# EAGLE library part MAX6676ISA (library untitled)
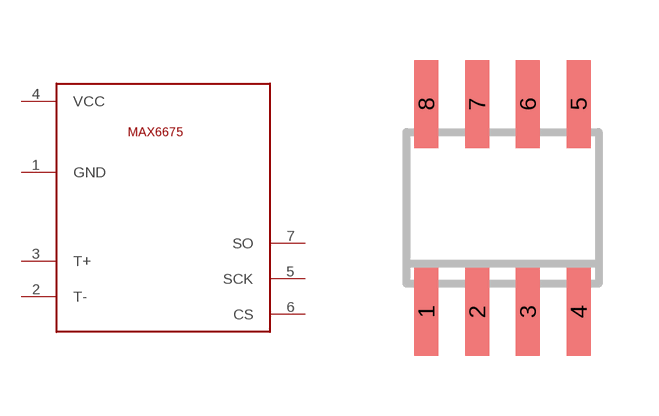
[diagram p0: symbol with the pads of SO8; footprint SO8]

Designator prefix -

## MAX6676ISA  [SO8]
1  GND
2  T-
3  T+
4  VCC
5  SCK
6  CS
7  SO

## Footprint SO8 (pad centres in mm)
SMALL OUTLINE INTEGRATED CIRCUIT
smd 0.6 x 2.2: 1 -1.905,-2.6; 2 -0.635,-2.6; 3 0.635,-2.6; 4 1.905,-2.6; 5 1.905,2.6; 6 0.635,2.6; 7 -0.635,2.6; 8 -1.905,2.6